# Altium footprint library Discrete_Diodes_Schottky_SMD.PcbLib: 3 footprints
Each footprint in its own frame and in the unit in brackets; x right, y up, seen from the top. Pads: shape width x height; smd on the part's side, far side on the other; paste and mask are expansions set on the pad; w line width, h text height; cw(c..) or ccw(c..) is an arc to the next point about the centre after c.
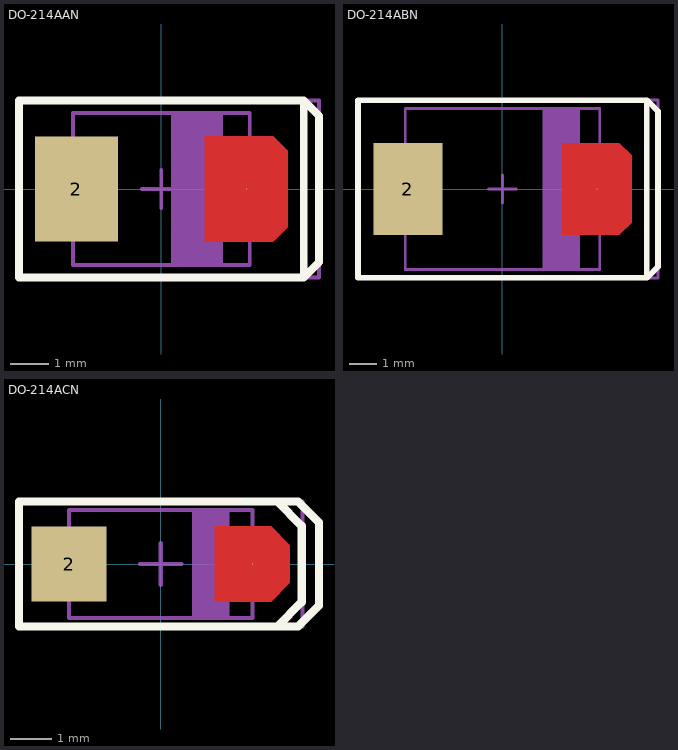
[diagram p0: the footprints below, top view; thin cyan lines are the x and y axes]

## DO-214AAN [mil]
height 98.43
pads (2):
  round 1 smd: 1(87.01,0)
  rect 85x107.99 smd: 2(-87.01,0)
Top Layer:
  region: 129.51,39.12 114.63,54 44.51,54 44.51,-54 114.63,-54 129.51,-39.12
Top Overlay:
  lines w7.87: 145.67,-90.55 145.67,-90.55 ; 145.67,-90.55 161.42,-74.8 161.42,74.8 145.67,90.55 ; 145.67,-90.55 145.67,90.55 ; 145.67,-90.55 -145.67,-90.55 -145.67,90.55 145.67,90.55 ; 145.67,90.55 145.67,90.55
Top Package:
  rectangle: 12.8,-77.76 62.01,78.74
  lines w3.94: -90.55,-43.31 -110.24,-43.31 -110.24,43.31 -90.55,43.31 ; 11.81,-76.77 11.81,77.76 ; 61.02,-77.76 61.02,77.76 ; 90.55,-43.31 110.24,-43.31 110.24,43.31 90.55,43.31 ; -90.55,-77.76 -90.55,77.76 90.55,77.76 90.55,-77.76 -90.55,-77.76
Top Comment:
  text ".Comment" at -31.14,59.16 h47.24
Top Designator:
  text ".Designator" at -33.45,93.72 h59.06
Top Border:
  lines w3.94: -145.67,-90.55 -145.67,90.55 161.42,90.55 161.42,-90.55 -145.67,-90.55 ; -19.68,0 19.68,0 -19.68,0 ; 0,-19.68 0,19.68 0,-19.68
3D body "User Library-DO-214AA_SMB.step": height 86.65, standoff -1.97, extent -104.34,-72.84 104.32,72.83

## DO-214ABN [mm]
height 2.5
pads (2):
  round 0.025 smd: 1(3.4,0)
  rect 2.5x3.3 smd: 2(-3.4,0)
Top Layer:
  region: 4.65,1.213 4.213,1.65 2.15,1.65 2.15,-1.65 4.213,-1.65 4.65,-1.213
Top Overlay:
  lines w0.2: 5.2,-3.2 5.6,-2.8 5.6,2.8 5.2,3.2 ; 5.2,-3.2 -5.2,-3.2 -5.2,3.2 5.2,3.2 ; 5.2,-3.2 5.2,3.2 ; 5.2,3.2 5.2,3.2
Top Package:
  rectangle: 1.525,-2.875 2.775,2.875
  lines w0.1: -3.5,-1.4 -4,-1.4 -4,1.4 -3.5,1.4 ; 1.5,-2.9 1.5,2.9 ; 2.75,-2.9 2.75,2.9 ; 3.5,-1.5 4,-1.5 4,1.5 3.5,1.5 ; -3.5,-2.9 -3.5,2.9 3.5,2.9 3.5,-2.9 -3.5,-2.9
Top Comment:
  text ".Comment" at -2.128,-0.489 h1.5
Top Designator:
  text ".Designator" at -3.738,-0.466 h2
Top Border:
  lines w0.1: -5.2,-3.2 -5.2,3.2 5.6,3.2 5.6,-3.2 -5.2,-3.2 ; -0.5,0 0.5,0 -0.5,0 ; 0,-0.5 0,0.5 0,-0.5
3D body "DO-214AB.step": height 2.3, standoff 0, extent -3.975,-2.95 3.975,2.95

## DO-214ACN [mm]
height 2.5
pads (2):
  round 0.025 smd: 1(2.2,0)
  rect 1.8x1.8 smd: 2(-2.2,0)
Top Layer:
  region: 2.65,-0.9 1.3,-0.9 1.3,0.9 2.65,0.9 3.1,0.45 3.1,-0.45
Top Overlay:
  lines w0.2: 2.8,-1.5 3.383,-0.917 3.383,0.917 2.8,1.5 ; -3.4,-1.5 -3.4,1.5 3.3,1.5 3.8,1 3.8,-1 3.3,-1.5 -3.4,-1.5
Top Package:
  rectangle: 0.8,-1.3 1.6,1.3
  lines w0.1: -2.2,-0.7 -2.6,-0.7 -2.6,0.7 -2.2,0.7 ; 0.8,-1.3 0.8,1.3 ; 1.6,-1.3 1.6,1.3 ; 2.2,-0.7 2.6,-0.7 2.6,0.7 2.2,0.7 ; -2.2,-1.3 -2.2,1.3 2.2,1.3 2.2,-1.3 -2.2,-1.3
Top Comment:
  text ".Comment" at -1.718,-0.391 h1.2
Top Designator:
  text ".Designator" at -2.981,-0.35 h1.5
Top Border:
  lines w0.1: -3.4,-1.5 -3.4,1.5 3.4,1.5 3.4,-1.5 -3.4,-1.5 ; -0.5,0 0.5,0 -0.5,0 ; 0,-0.5 0,0.5 0,-0.5
3D body "DO-214AC.STEP": height 2.3, standoff -0.1, extent -2.6,-1.3 2.6,1.3